# Altium integrated library relay.IntLib: 425 symbols (part 4 of 4)
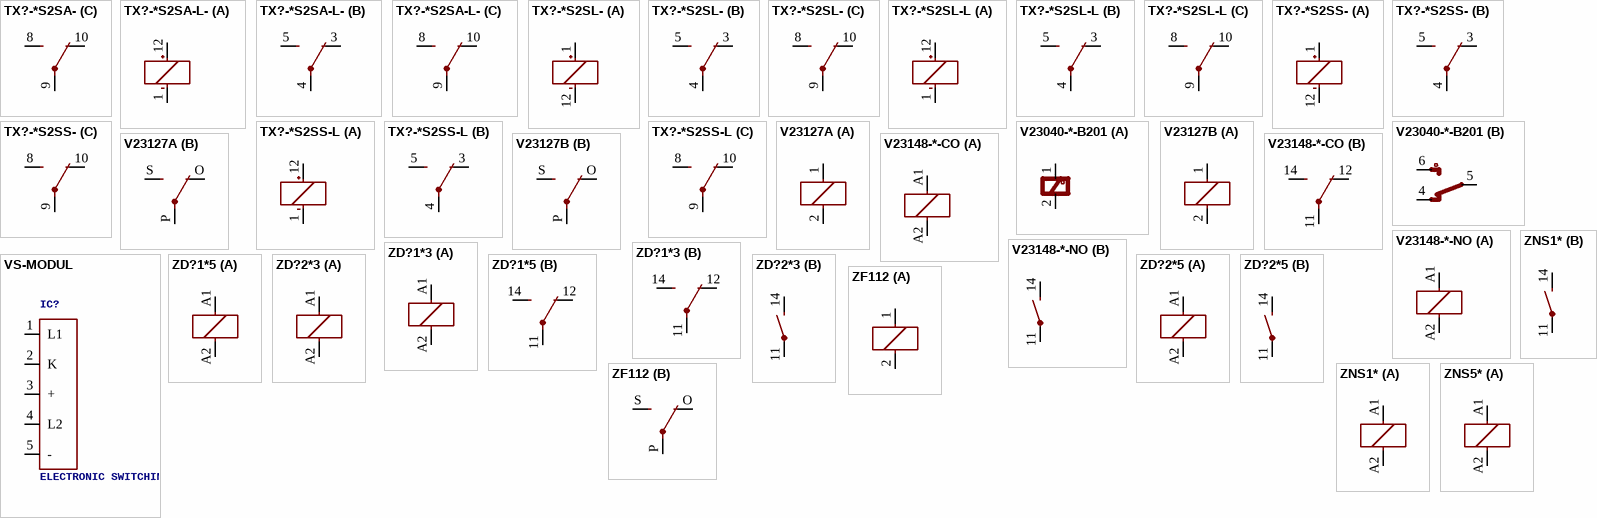
[diagram p33: symbols TX?-*S2SA- to ZNS5*]

## TX?-*S2SA-
designator K?, comment TX Relais NAiS   TX-D RELAYS HIGH INSULATION Conforming to the supplementary insulation class of EN Standards (EN41003) Source: http://www.mew-europe.com/..  en_ds_61022_0007.pdf TX-S RELAYS SMALL POLARIZED RELAY WITH HIGH SENSITIVITY 50mW Source: http://www.mew-europe.com/..  en_ds_61022_0022.pdf  (value not drawn)
MPN: TXS2SA-1.5V; MPN: TXS2SA-12V; MPN: TXS2SA-24V; MPN: TXS2SA-3V; MPN: TXS2SA-4.5V; MPN: TXS2SA-6V; MPN: TXS2SA-9V; MF: AROMAT/ MATSUSHITA; OC_FARNELL: unknown; OC_NEWARK: 11N6059; OC_FARNELL: 1231846; OC_NEWARK: 13P9545; OC_NEWARK: 11C0345; OC_NEWARK: 11N6066; OC_NEWARK: 13P9550; OC_NEWARK: unknown; OC_NEWARK: 13P9552; OC_NEWARK: 97H8371
footprint TXD2SA
part A pins: 1 +, 12 -
part B pins: 3 O, 4 P, 5 S
part C pins: 8 S, 9 P, 10 O

## TX?-*S2SA-L-
designator K?, comment TX Relais NAiS   TX-D RELAYS HIGH INSULATION Conforming to the supplementary insulation class of EN Standards (EN41003) Source: http://www.mew-europe.com/..  en_ds_61022_0007.pdf TX-S RELAYS SMALL POLARIZED RELAY WITH HIGH SENSITIVITY 50mW Source: http://www.mew-europe.com/..  en_ds_61022_0022.pdf  (value not drawn)
MPN: TXS2SA-L-1.5V; MPN: TXS2SA-L-12V; MPN: TXS2SA-L-24V; MPN: TXS2SA-L-3V; MPN: TXS2SA-L-4.5V; MPN: TXS2SA-L-5V; MPN: TXS2SA-L-6V; MPN: TXS2SA-L-9V; OC_FARNELL: unknown; OC_NEWARK: 12N3853; OC_NEWARK: 12N3856; OC_NEWARK: 12N3859; OC_NEWARK: 12N3862; OC_NEWARK: 15P9968; OC_NEWARK: 12N3867; OC_NEWARK: 12N3870; OC_NEWARK: 12N3873
footprint TXD2SA
part A pins: 1 -, 12 +
part B pins: 3 O, 4 P, 5 S
part C pins: 8 S, 9 P, 10 O

## TX?-*S2SL-
designator K?, comment TX Relais NAiS   TX-D RELAYS HIGH INSULATION Conforming to the supplementary insulation class of EN Standards (EN41003) Source: http://www.mew-europe.com/..  en_ds_61022_0007.pdf TX-S RELAYS SMALL POLARIZED RELAY WITH HIGH SENSITIVITY 50mW Source: http://www.mew-europe.com/..  en_ds_61022_0022.pdf  (value not drawn)
MPN: TXS2SL-1.5V; MPN: TXS2SL-12V; MPN: TXS2SL-24V; MPN: TXS2SL-3V-Z; MPN: TXS2SL-4.5V; MPN: TXS2SL-6V; MPN: TXS2SL-9V; OC_FARNELL: unknown; OC_NEWARK: 11N6074; OC_NEWARK: 11N6077; OC_NEWARK: 11N6081; OC_NEWARK: 13P9555; OC_NEWARK: 13P9556; OC_NEWARK: unknown; OC_NEWARK: 11N6087; OC_NEWARK: 11N6090
footprint TXD2SL
part A pins: 1 +, 12 -
part B pins: 3 O, 4 P, 5 S
part C pins: 8 S, 9 P, 10 O

## TX?-*S2SL-L
designator K?, comment TX Relais NAiS   TX-D RELAYS HIGH INSULATION Conforming to the supplementary insulation class of EN Standards (EN41003) Source: http://www.mew-europe.com/..  en_ds_61022_0007.pdf TX-S RELAYS SMALL POLARIZED RELAY WITH HIGH SENSITIVITY 50mW Source: http://www.mew-europe.com/..  en_ds_61022_0022.pdf  (value not drawn)
MPN: TXS2SL-L-1.5V; MPN: TXS2SL-L-12V; MPN: TXS2SL-L-24V; MPN: TXS2SL-L-3V; MPN: TXS2SL-L-4.5V; MPN: TXS2SL-L-6V; MPN: TXS2SL-L-9V; OC_FARNELL: unknown; OC_NEWARK: 12N3892; OC_NEWARK: 12N3895; OC_NEWARK: 12N3898; OC_NEWARK: 12N3902; OC_NEWARK: 12N3905; OC_NEWARK: unknown; OC_NEWARK: 12N3908; OC_NEWARK: 12N3911
footprint TXD2SL
part A pins: 1 -, 12 +
part B pins: 3 O, 4 P, 5 S
part C pins: 8 S, 9 P, 10 O

## TX?-*S2SS-
designator K?, comment TX Relais NAiS   TX-D RELAYS HIGH INSULATION Conforming to the supplementary insulation class of EN Standards (EN41003) Source: http://www.mew-europe.com/..  en_ds_61022_0007.pdf TX-S RELAYS SMALL POLARIZED RELAY WITH HIGH SENSITIVITY 50mW Source: http://www.mew-europe.com/..  en_ds_61022_0022.pdf  (value not drawn)
MPN: TXS2SS-1.5V; MPN: TXS2SS-12V; MPN: TXS2SS-24V-Z; MPN: TXS2SS-3V-Z; MPN: TXS2SS-4.5V; MPN: TXS2SS-6V; MPN: TXS2SS-9V; OC_FARNELL: unknown; OC_NEWARK: 11N6094; OC_NEWARK: 13P9561; OC_NEWARK: 13P9563; OC_NEWARK: 13P9564; OC_NEWARK: 13P9565; OC_NEWARK: unknown; OC_NEWARK: 11N6103; OC_NEWARK: 11N6106
footprint TXD2SS
part A pins: 1 +, 12 -
part B pins: 3 O, 4 P, 5 S
part C pins: 8 S, 9 P, 10 O

## TX?-*S2SS-L
designator K?, comment TX Relais NAiS   TX-D RELAYS HIGH INSULATION Conforming to the supplementary insulation class of EN Standards (EN41003) Source: http://www.mew-europe.com/..  en_ds_61022_0007.pdf TX-S RELAYS SMALL POLARIZED RELAY WITH HIGH SENSITIVITY 50mW Source: http://www.mew-europe.com/..  en_ds_61022_0022.pdf  (value not drawn)
MPN: TXS2SS-L-1.5V; MPN: TXS2SS-L-12V; MPN: TXS2SS-L-24V; MPN: TXS2SS-L-3V; MPN: TXS2SS-L-4.5V; MPN: TXS2SS-L-6V; MPN: TXS2SS-L-9V; OC_FARNELL: unknown; OC_NEWARK: 12N3933; OC_NEWARK: 12N3936; OC_NEWARK: 12N3939; OC_NEWARK: 12N3942; OC_NEWARK: 12N3945; OC_NEWARK: unknown; OC_NEWARK: 12N3948; OC_NEWARK: 12N3951
footprint TXD2SS
part A pins: 1 -, 12 +
part B pins: 3 O, 4 P, 5 S
part C pins: 8 S, 9 P, 10 O

## V23040-*-B201
designator RL?, comment SIEMENS   Monostabil A0001 = 5V; A0002 = 12V; A0003 = 15V; A0004 = 24V Bistabil C0051 = 5V; C0052 = 12V  (value not drawn)
MPN: V23040-A0002-B201; OC_FARNELL: unknown; OC_NEWARK: unknown; OC_FARNELL: 1174994; OC_NEWARK: 24M9075
footprint V23040201
part A pins: 1, 2, 3
part B pins: 4, 5, 6

## V23127A
designator K?, comment RELAY   horizontal, 1 x switch, 5 A/300 V DC, 250 V AC, Siemens  (value not drawn)
OC_FARNELL: unknown; OC_NEWARK: unknown
footprint V23127A
part A pins: 1, 2
part B pins: O, P, S

## V23127B
designator K?, comment RELAY   vertical, 1 x switch, 5 A/300 V DC, 250 V AC, Siemens  (value not drawn)
OC_FARNELL: unknown; OC_NEWARK: unknown
footprint V23127B
part A pins: 1, 2
part B pins: O, P, S

## V23148-*-CO
designator K?, comment Power PCB Relay U/UB close/open   tyco/electronics; 1 pole 7 A, mono or bistabile www.schrackrelays.com/pdf/UUB.pdf  (value not drawn)
MPN: V23148-A1107-A101; MPN: V23148-A1105-A101; MPN: V23148-B0005-A101; MPN: V23148-B0008-A101; OC_FARNELL: 1175043; OC_NEWARK: 23M2638; OC_NEWARK: 34M8971; OC_FARNELL: 1175042; OC_NEWARK: 48M9081; OC_NEWARK: 16R7906
footprint V23148-CO
part A pins: A1 1, A2 2
part B pins: 11 P, 12 O, 14 S

## V23148-*-NO
designator K?, comment Power PCB Relay U/UB normal open   tyco/electronics;  1 pole 7 A, mono or bistabile www.schrackrelays.com/pdf/UUB.pdf  (value not drawn)
MPN: V23148-A0007-A101; MPN: V23148-A1105-A101; OC_FARNELL: 1175042; OC_NEWARK: 48M9078; OC_NEWARK: 34M8971; OC_FARNELL: 1175043
footprint V23148-NO
part A pins: A1 1, A2 2
part B pins: 11 P, 14 S

## VS-MODUL
designator IC?, comment ELECTRONIC SWITCHING CIRCUIT NAiS   Following Relais can combine to VS-Device: DE, DF, DK, DS, DSP, DX, R, RA, RG, RK, RM, RX, S, SP, ST, SX, TF, TN, TK, TQ, TQ-SA, TX Source: http://www.mew-europe.com/.. 1060dlde0301.pdf en_ds_61702_0000.pdf
OC_FARNELL: unknown; OC_NEWARK: unknown
footprint VS05-NAIS
pins: 1 L1, 2 K, 3 +, 4 L2, 5 -

## ZD?1*3
designator K?, comment Power Relay SCHRACK   1 pole 30 A Source: http://www.schrack.com/.. 5848.pdf  (value not drawn)
OC_FARNELL: unknown; OC_NEWARK: unknown
footprint ZD1
part A pins: A1 1, A2 2
part B pins: 11 P, 12 O, 14 S

## ZD?1*5
designator K?, comment Power Relay SCHRACK   1 pole 30 A Source: http://www.schrack.com/.. 5848.pdf  (value not drawn)
OC_FARNELL: unknown; OC_NEWARK: unknown
footprint ZD1F
part A pins: A1 1, A2 2
part B pins: 11 P, 12 O, 14 S

## ZD?2*3
designator K?, comment Power Relay SCHRACK   1 pole 30 A Source: http://www.schrack.com/.. 5848.pdf  (value not drawn)
OC_FARNELL: unknown; OC_NEWARK: unknown
footprint ZD2
part A pins: A1 1, A2 2
part B pins: 11 P, 14 S

## ZD?2*5
designator K?, comment Power Relay SCHRACK   1 pole 30 A Source: http://www.schrack.com/.. 5848.pdf  (value not drawn)
OC_FARNELL: unknown; OC_NEWARK: unknown
footprint ZD2F
part A pins: A1 1, A2 2
part B pins: 11 P, 14 S

## ZF112
designator K?, comment RELAY   1 x switch  (value not drawn)
OC_FARNELL: unknown; OC_NEWARK: unknown
footprint ZF112
part A pins: 1, 2
part B pins: O, P, S

## ZNS1*
designator K?, comment Miniature Power PCB Relay SCHRACK   1pole 10 A Source: http://www.schrack.com/.. 5847.pdf  (value not drawn)
OC_FARNELL: unknown; OC_NEWARK: unknown
footprint ZN1
part A pins: A1 1, A2 2
part B pins: 11 P, 14 S

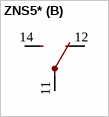
[diagram p30: symbol ZNS5*]

## ZNS5*
designator K?, comment Miniature Power PCB Relay SCHRACK   1pole 10 A Source: http://www.schrack.com/.. 5847.pdf  (value not drawn)
OC_FARNELL: unknown; OC_NEWARK: unknown
footprint ZN5
part A pins: A1 1, A2 2
part B pins: 11 P, 12 O, 14 S